# Altium schematic symbol library SN74HC151N.SchLib: 1 symbol
Pins are listed as number, name and electrical type; pins without a type are passive.

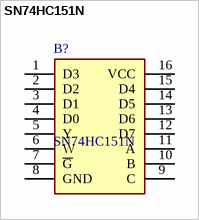
[diagram p0: symbol SN74HC151N]

## SN74HC151N
designator B?
Encoders, Decoders, Multiplexers & Demultiplexers 8-1 Line Data Selctr; Manufacturer_Name: Texas Instruments; Geometry.Height: 5.08mm; Mouser Part Number: 595-SN74HC151N; Mouser Price/Stock: https://www.mouser.co.uk/ProductDetail/Texas-Instruments/SN74HC151N?qs=st7IWvlL5%2FgZ0EYsqHF4AQ%3D%3D; Manufacturer_Part_Number: SN74HC151N; Datasheet Link: https://www.ti.com/lit/gpn/SN74HC151
footprint DIP794W53P254L1930H508Q16N
pins: 1 D3, 2 D2, 3 D1, 4 D0, 5 Y, 6 W, 7 ~{G}, 8 GND, 9 C, 10 B, 11 A, 12 D7, 13 D6, 14 D5, 15 D4, 16 VCC